# Altium footprint library 万年历PCB库.PcbLib: 24 footprints (part 1 of 2)
Each footprint in its own frame and in the unit in brackets; x right, y up, seen from the top. Pads: shape width x height; smd on the part's side, far side on the other; paste and mask are expansions set on the pad; w line width, h text height; cw(c..) or ccw(c..) is an arc to the next point about the centre after c.
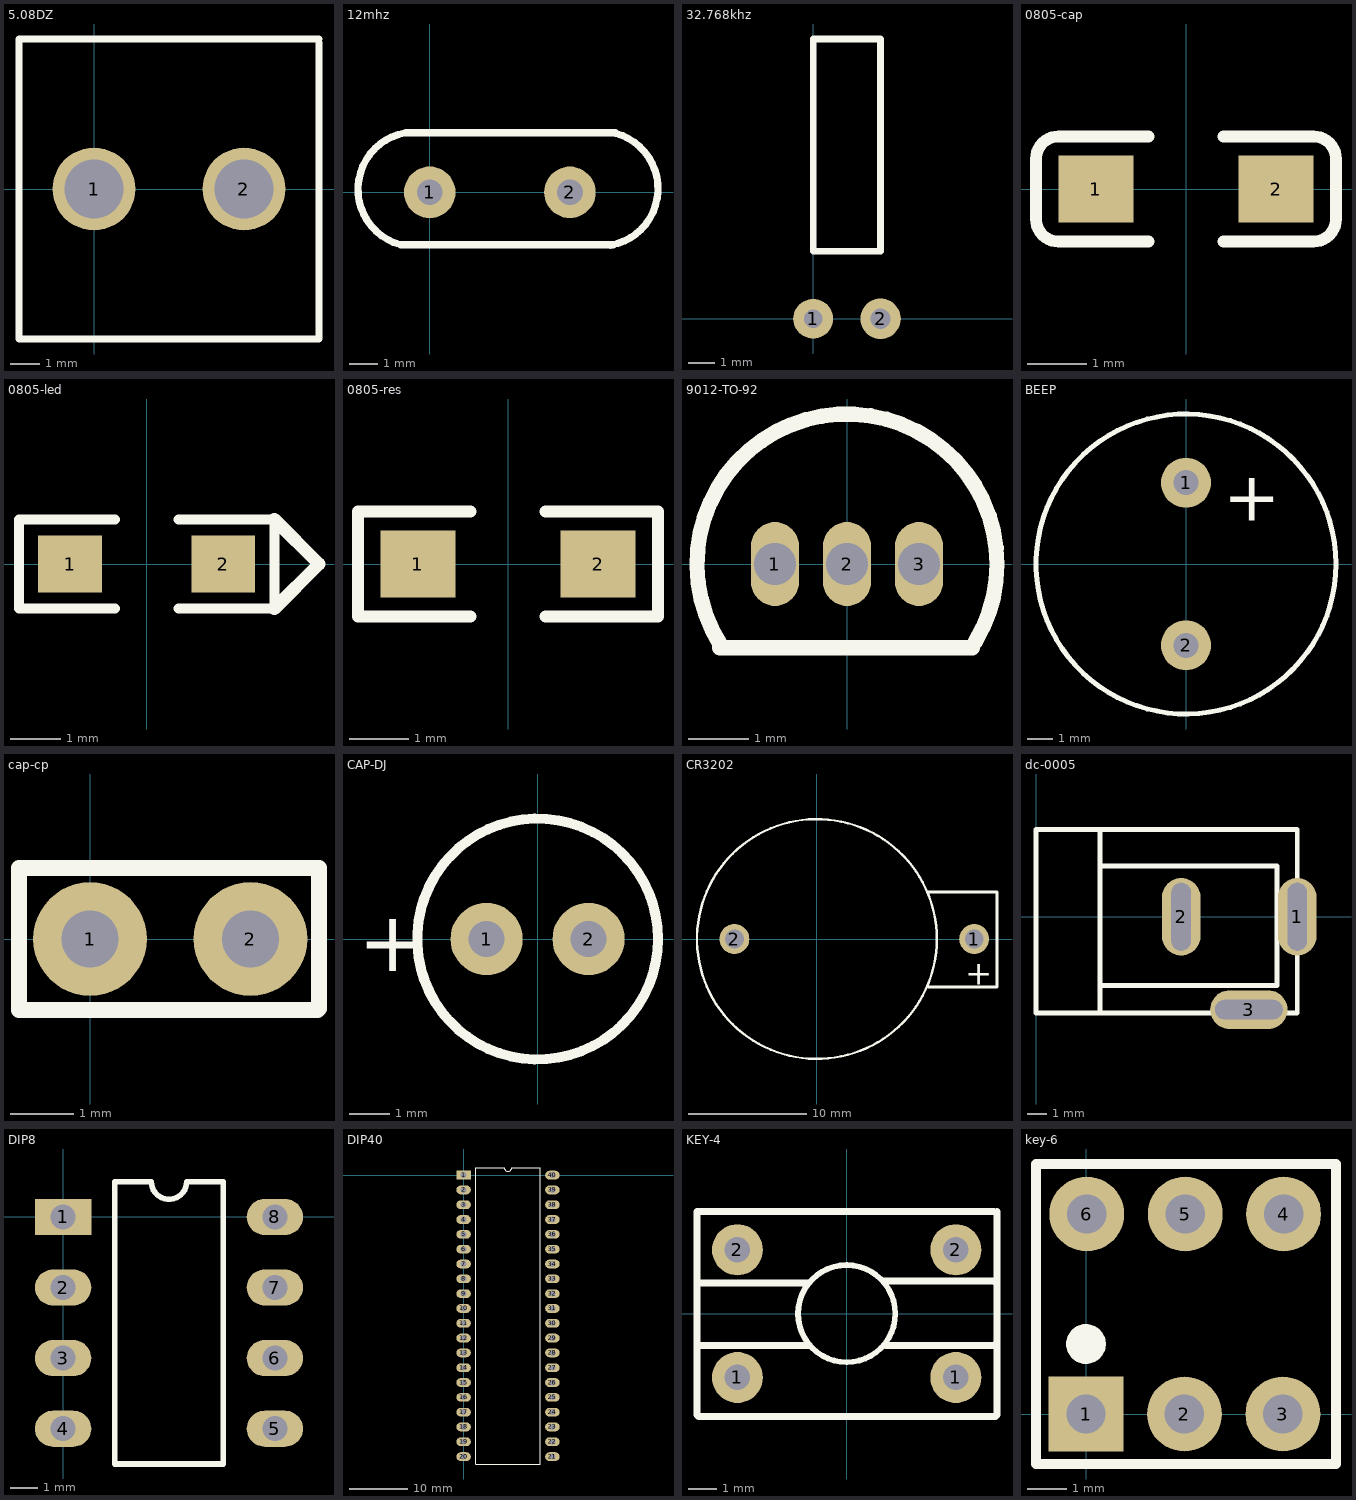
[diagram p0: the footprints below, top view; thin cyan lines are the x and y axes]

## 5.08DZ [mm]
pads (2):
  round 2.8 hole 2: 1(0,0) 2(5.08,0)
Top Overlay:
  lines w0.25: -2.54,-5.08 -2.54,0.1 ; -2.54,0 -2.54,5.08 0,5.08 7.62,5.08 ; -2.47,-5.08 0,-5.08 ; -0.05,-5.08 7.62,-5.08 ; 7.575,-5.05 7.62,-5.005 7.62,0 7.62,4.955

## 12mhz [mm]
pads (2):
  round 1.8 hole 0.9: 1(0,0) 2(4.88,0)
Top Overlay:
  lines w0.25: -1.016,-1.827 cw(c-0.501,0.106) -0.85,2.075 6.465,2.075 ; -1.016,-1.825 6.4,-1.825 ; 6.299,-1.844 ccw(c5.95,0.125) 6.465,2.057

## 32.768khz [mm]
pads (2):
  round 1.5 hole 0.7: 1(0,0)
  round 1.524 hole 0.762: 2(2.54,0)
Top Overlay:
  lines w0.254: 2.539,10.54 0,10.54 0,2.54 2.54,2.54 ; 2.54,2.541 2.54,10.541

## 0805-cap [mm]
pads (2):
  rect 1.27x1.14 smd: 1(-1.525,0) 2(1.525,0)
Top Overlay:
  lines w0.2: -0.635,-0.889 -2.159,-0.889 cw(c-2.159,-0.508) -2.54,-0.508 -2.54,0.508 cw(c-2.159,0.508) -2.159,0.889 -0.635,0.889 ; 0.635,-0.889 2.159,-0.889 ccw(c2.159,-0.508) 2.54,-0.508 2.54,0.508 ccw(c2.159,0.508) 2.159,0.889 0.635,0.889

## 0805-led [mm]
pads (2):
  rect 1.27x1.14 smd: 1(-1.525,0) 2(1.525,0)
Top Overlay:
  lines w0.2: -0.635,-0.889 -2.54,-0.889 -2.54,-0.25 -2.54,0.889 -0.635,0.889 ; 0.635,-0.889 2.54,-0.889 2.54,0.889 0.635,0.889
  lines w0.254: 2.54,-0.889 3.429,0 2.54,0.889

## 0805-res [mm]
pads (2):
  rect 1.27x1.14 smd: 1(-1.525,0) 2(1.525,0)
Top Overlay:
  lines w0.2: -0.635,-0.889 -2.54,-0.889 -2.54,-0.25 -2.54,0.889 -0.635,0.889 ; 0.635,-0.889 2.54,-0.889 2.54,0.889 0.635,0.889

## 9012-TO-92 [mm]
pads (3):
  oval 0.8x1.4 hole 0.7: 1(-1.2,0) 2(0,0) 3(1.2,0)
Top Overlay:
  lines w0.254: -2.12,-1.397 2.09,-1.397 ; -2.12,-1.325 cw(c0,0) 2.137,-1.298

## BEEP [mm]
pads (2):
  round 2 hole 1: 1(0,3.25) 2(0,-3.25)
Top Overlay:
  circle w0.2: c0,0 r6
  text "+" at 1.499,1.727 h2

## cap-cp [mm]
pads (2):
  round 1.8 hole 0.9: 1(0,0) 2(2.54,0)
Top Overlay:
  lines w0.25: -1.125,-1.125 -1.125,1.125 3.625,1.125 3.625,-1.1 3.6,-1.125 -1.125,-1.125

## CAP-DJ [mm]
pads (2):
  round 1.8 hole 0.9: 1(-1.27,0) 2(1.27,0)
Top Overlay:
  circle w0.25: c0,0 r3
  text "+" at -4.475,-0.8 h1.5

## CR3202 [mm]
pads (2):
  round 2.54 hole 1.6: 1(13.335,0) 2(-6.985,0)
Top Overlay:
  circle w0.2: c0.008,0 r10.16
  lines w0.254: 9.373,3.975 15.265,3.975 15.265,0.348 15.265,-4.076 9.474,-4.076
  text "+" at 12.573,-3.861 h2

## dc-0005 [mm]
pads (3):
  oval 2x4 hole 1 slot 3.5 at 90 deg: 1(13.5,0) 2(7.5,0)
  oval 4x2 hole 1 slot 3.5 at 0 deg: 3(11,-4.8)
Top Overlay:
  lines w0.254: 3.277,-4.902 3.353,-4.978 ; 3.3,0 3.3,4.443 3.327,4.47 ; 3.304,-4.902 3.304,0.127 ; 3.304,-3.556 12.446,-3.556 12.446,2.616 3.378,2.616 ; 0,-4.983 13.5,-4.983 13.5,-4.762 13.5,0 13.5,4.5 0,4.5 0,0 0,-4.983

## DIP8 [mm]
pads (8):
  rect 2.032x1.3 hole 0.9: 1(0,0)
  oval 2.032x1.3 hole 0.9: 2(0,-2.54) 3(0,-5.08) 4(0,-7.62) 5(7.62,-7.62) 6(7.62,-5.08) 7(7.62,-2.54) 8(7.62,0)
Top Overlay:
  lines w0.2: 1.851,-8.89 1.851,1.27 3.175,1.27 ccw(c3.81,1.27) 4.445,1.27 5.769,1.27 5.769,-8.89 1.851,-8.89

## DIP40 [mm]
pads (40):
  rect 2.5x1.5 hole 1: 1(0,0)
  oval 2.5x1.5 hole 1: 2(0,-2.54) 3(0,-5.08) 4(0,-7.62) 5(0,-10.16) 6(0,-12.7) 7(0,-15.24) 8(0,-17.78) 9(0,-20.32) 10(0,-22.86) 11(0,-25.4) 12(0,-27.94) 13(0,-30.48) 14(0,-33.02) 15(0,-35.56) 16(0,-38.1) 17(0,-40.64) 18(0,-43.18) 19(0,-45.72) 20(0,-48.26) 21(15.24,-48.26) 22(15.24,-45.72) 23(15.24,-43.18) 24(15.24,-40.64) 25(15.24,-38.1) 26(15.24,-35.56) 27(15.24,-33.02) 28(15.24,-30.48) 29(15.24,-27.94) 30(15.24,-25.4) 31(15.24,-22.86) 32(15.24,-20.32) 33(15.24,-17.78) 34(15.24,-15.24) 35(15.24,-12.7) 36(15.24,-10.16) 37(15.24,-7.62) 38(15.24,-5.08) 39(15.24,-2.54) 40(15.24,0)
Top Overlay:
  lines w0.2: 2.085,-49.53 13.155,-49.53 13.155,1.27 8.255,1.27 cw(c7.62,1.27) 6.985,1.27 2.085,1.27 2.085,-49.53

## KEY-4 [mm]
pads (4):
  round 1.8 hole 0.9: 1(-3.85,-2.25) 1(3.85,-2.25) 2(-3.85,2.25) 2(3.85,2.25)
Top Overlay:
  circle w0.2: c0,0 r1.712
  lines w0.25: -5.275,-1.125 -1.35,-1.125 -1.325,-1.1 ; -5.275,3.6 -5.275,-3.575 -5.225,-3.625 5.25,-3.625 5.3,-3.575 5.3,3.6 ; -5.25,3.575 -5.225,3.6 5.2,3.6 ; -5.175,1.075 -1.35,1.075 ; 1.325,1.15 5.2,1.15 5.225,1.125 ; 1.375,-1.125 5.2,-1.125 5.3,-1.025

## key-6 [mm]
pads (6):
  rect 1.9x1.9 hole 1: 1(0,0)
  round 1.9 hole 1: 2(2.5,0) 3(5,0) 4(5.02,5.08) 5(2.52,5.08) 6(0.02,5.08)
Top Overlay:
  circle w0.5: c0,1.778 r0.254
  lines w0.254: -1.27,-1.27 -1.27,6.35 6.35,6.35 6.35,-1.27 -1.27,-1.27